# EAGLE library part LT1945 (library kennethlimcp)
LT1945 36V switch, 350mA, Dual micropower DC/DC converter
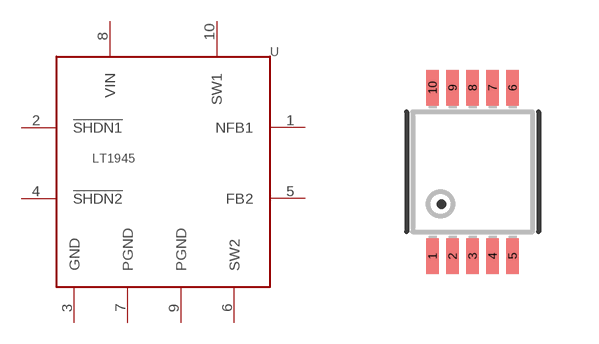
[diagram p2: symbol with the pads of MSOP-10; footprint MSOP-10]

Designator prefix -

## LT1945-IMS#PBF  [MSOP-10]
1  NFB1
2  !SHDN1
3  GND
4  !SHDN2
5  FB2
6  SW2
7  PGND
8  VIN
9  PGND
10  SW1

## Footprint MSOP-10 (pad centres in mm)
smd 0.305 x 0.889: 1 -1,-2.11; 2 -0.5,-2.11; 3 0,-2.11; 4 0.5,-2.11; 5 1,-2.11; 6 1,2.11; 7 0.5,2.11; 8 0,2.11; 9 -0.5,2.11; 10 -1,2.11